# EAGLE library part TPS2812 (library mr_radar)
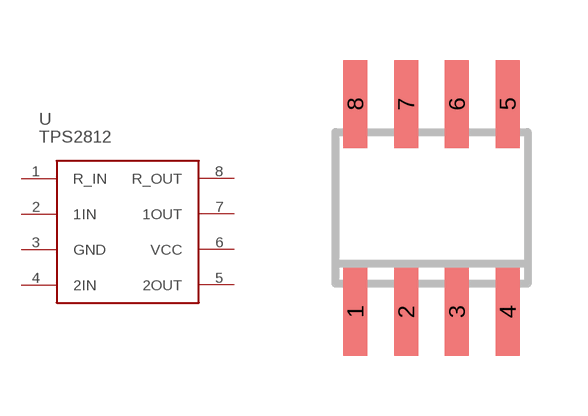
[diagram p8: symbol with the pads of SO8; footprint SO8]

Designator prefix -

## TPS2812  [SO8]
1  R_IN  in
2  1IN  in
3  GND  pwr
4  2IN  in
5  2OUT  out
6  VCC
7  1OUT  out
8  R_OUT  out

## Footprint SO8 (pad centres in mm)
8-Lead Small Outline IC (SO-8) Source: http://www.analog.com/UploadedFiles/Data_Sheets/703465986AD8611_2_0.pdf
smd 0.6 x 2.2: 1 -1.905,-2.6; 2 -0.635,-2.6; 3 0.635,-2.6; 4 1.905,-2.6; 5 1.905,2.6; 6 0.635,2.6; 7 -0.635,2.6; 8 -1.905,2.6